# EAGLE library part MSP430FR5969_RGZ_48 (library msp430)
MSP430FR59xx Mixed Signal Microcontroller Package: RGZ-S-PQVFN-N48 (MSP430FR596x and MSP430FR586x) Description The Texas Instruments MSP430FR58xx and MSP430FR59xx family of ultralow-power microcontrollers consists of several devices featuring embedded FRAM nonvolatile memory, an ultralow-power 16-bit MSP430 CPU, and different sets of peripherals targeted for various applications. The architecture, FRAM, and peripherals, combined with seven low-power modes, are optimized to achieve extended battery life in portable and wireless sensing applications. FRAM is a new nonvolatile memory that combines the speed, flexibility, and endurance of SRAM with the stability and reliability of flash, all at lower total power consumption.
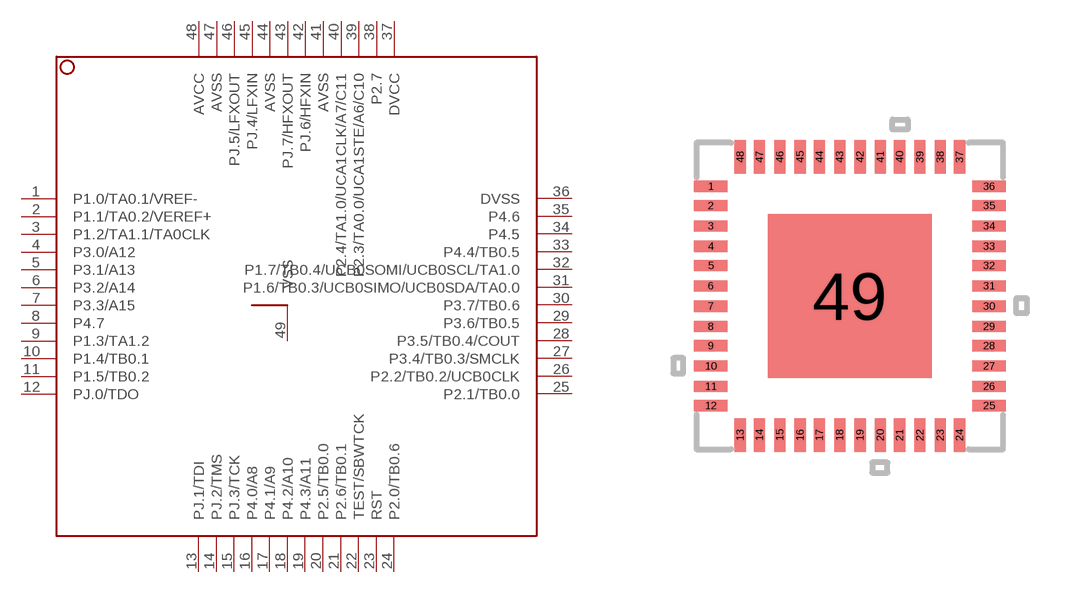
[diagram p3: symbol with the pads of RGZ48_4P1X4P1; footprint RGZ48_4P1X4P1]

Designator prefix U

## MSP430FR5969_RGZ_48 (MANUFACTURER_PART_NUMBER: msp430fr5969_rgz_48; VENDOR: Texas Instruments)  [RGZ48_4P1X4P1]
1  P1.0/TA0.1/VREF-
2  P1.1/TA0.2/VEREF+
3  P1.2/TA1.1/TA0CLK
4  P3.0/A12
5  P3.1/A13
6  P3.2/A14
7  P3.3/A15
8  P4.7
9  P1.3/TA1.2
10  P1.4/TB0.1
11  P1.5/TB0.2
12  PJ.0/TDO
13  PJ.1/TDI
14  PJ.2/TMS
15  PJ.3/TCK
16  P4.0/A8
17  P4.1/A9
18  P4.2/A10
19  P4.3/A11
20  P2.5/TB0.0
21  P2.6/TB0.1
22  TEST/SBWTCK
23  RST
24  P2.0/TB0.6
25  P2.1/TB0.0
26  P2.2/TB0.2/UCB0CLK
27  P3.4/TB0.3/SMCLK
28  P3.5/TB0.4/COUT
29  P3.6/TB0.5
30  P3.7/TB0.6
31  P1.6/TB0.3/UCB0SIMO/UCB0SDA/TA0.0
32  P1.7/TB0.4/UCB0SOMI/UCB0SCL/TA1.0
33  P4.4/TB0.5
34  P4.5
35  P4.6
36  DVSS
37  DVCC
38  P2.7
39  P2.3/TA0.0/UCA1STE/A6/C10
40  P2.4/TA1.0/UCA1CLK/A7/C11
41  AVSS
42  PJ.6/HFXIN
43  PJ.7/HFXOUT
44  AVSS
45  PJ.4/LFXIN
46  PJ.5/LFXOUT
47  AVSS
48  AVCC
49  VSS

## Footprint RGZ48_4P1X4P1 (pad centres in mm)
smd 0.838 x 0.279: 1 -3.48,2.743; 2 -3.48,2.261; 3 -3.48,1.753; 4 -3.48,1.245; 5 -3.48,0.762; 6 -3.48,0.254; 7 -3.48,-0.254; 8 -3.48,-0.762; 9 -3.48,-1.245; 10 -3.48,-1.753; 11 -3.48,-2.261; 12 -3.48,-2.743; 25 3.48,-2.743; 26 3.48,-2.261; 27 3.48,-1.753; 28 3.48,-1.245; 29 3.48,-0.762; 30 3.48,-0.254; 31 3.48,0.254; 32 3.48,0.762; 33 3.48,1.245; 34 3.48,1.753; 35 3.48,2.261; 36 3.48,2.743
smd 0.279 x 0.838: 13 -2.743,-3.48; 14 -2.261,-3.48; 15 -1.753,-3.48; 16 -1.245,-3.48; 17 -0.762,-3.48; 18 -0.254,-3.48; 19 0.254,-3.48; 20 0.762,-3.48; 21 1.245,-3.48; 22 1.753,-3.48; 23 2.261,-3.48; 24 2.743,-3.48; 37 2.743,3.48; 38 2.261,3.48; 39 1.753,3.48; 40 1.245,3.48; 41 0.762,3.48; 42 0.254,3.48; 43 -0.254,3.48; 44 -0.762,3.48; 45 -1.245,3.48; 46 -1.753,3.48; 47 -2.261,3.48; 48 -2.743,3.48
smd 4.089 x 4.089: 49 0,0